# Altium footprint library 2.54_Connector_x6_male_25mm.PcbLib: 1 footprints
Each footprint in its own frame and in the unit in brackets; x right, y up, seen from the top. Pads: shape width x height; smd on the part's side, far side on the other; paste and mask are expansions set on the pad; w line width, h text height; cw(c..) or ccw(c..) is an arc to the next point about the centre after c.
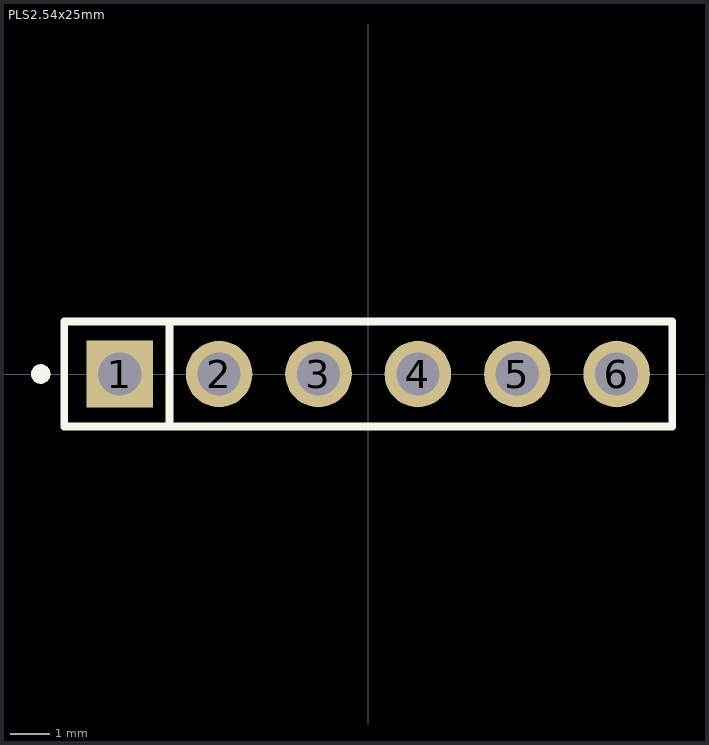
[diagram p0: the footprint, top view; thin cyan lines are the x and y axes]

## PLS2.54x25mm [mm]
pads (6):
  rect 1.7x1.7 hole 1.1 paste-2539.97 mask+0: 1(-6.35,0)
  round 1.7 hole 1.1 paste-2539.97 mask+0: 2(-3.81,0) 3(-1.27,0) 4(1.27,0) 5(3.81,0) 6(6.35,0)
Top Overlay:
  circle w0.25: c-8.37,0 r0.125
  lines w0.2: -5.08,-1.345 -5.08,1.345 ; -7.77,-1.345 -7.77,1.345 7.77,1.345 7.77,-1.345 -7.77,-1.345
3D body "PLS-5 pin.STEP": height 16, standoff -3, extent -7.62,-1.27 7.62,1.27